# Altium footprint library PCB - LEADLESS - DFN - SKYWORKS SKY13351-378LF 1X1MM.PCBLIB: 1 footprints
Each footprint in its own frame and in the unit in brackets; x right, y up, seen from the top. Pads: shape width x height; smd on the part's side, far side on the other; paste and mask are expansions set on the pad; w line width, h text height; cw(c..) or ccw(c..) is an arc to the next point about the centre after c.
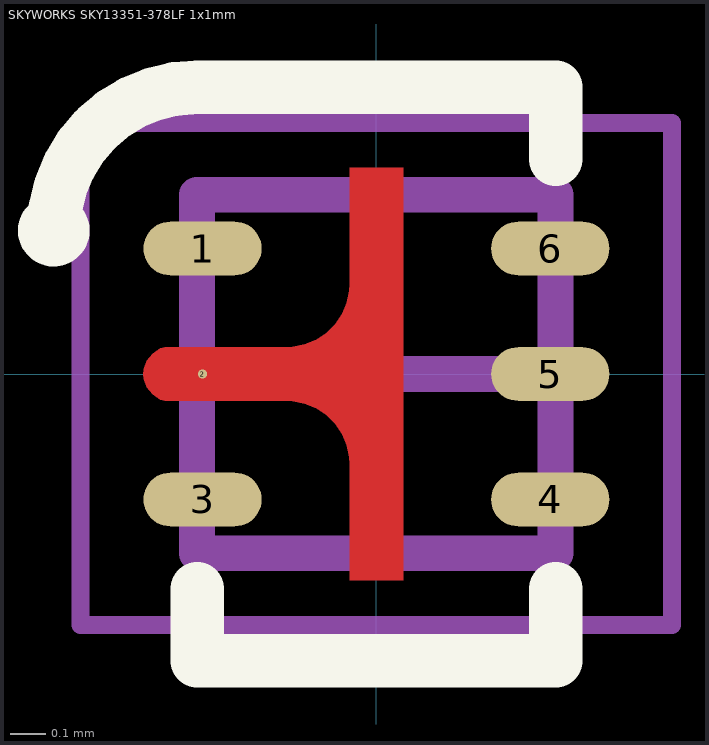
[diagram p0: the footprint, top view; thin cyan lines are the x and y axes]

## SKYWORKS SKY13351-378LF 1x1mm [mm] "QFN, 6-Leads, Body 1.00x1.00mm, Pitch 0.50mm, IPC High Density"
height 0.5
pads (6):
  oval 0.33x0.15 smd: 1(-0.485,0.35) 3(-0.485,-0.35) 4(0.485,-0.35) 5(0.485,0) 6(0.485,0.35)
  round 0.025 smd: 2(-0.485,0)
Top Layer:
  region: -0.075,0.575 -0.075,0.25 -0.076,0.233 -0.083,0.199 -0.096,0.168 -0.115,0.139 -0.139,0.115 -0.168,0.096 -0.199,0.083 -0.233,0.076 -0.25,0.075 -0.591,0.075 -0.603,0.071 -0.624,0.057 -0.64,0.037 -0.649,0.013 -0.65,0 -0.649,-0.013 -0.64,-0.037 -0.624,-0.057 -0.603,-0.071 -0.591,-0.075 -0.25,-0.075 -0.233,-0.076 -0.199,-0.083 -0.168,-0.096 -0.139,-0.115 -0.115,-0.139 -0.096,-0.168 -0.083,-0.199 -0.076,-0.233 -0.075,-0.25 -0.075,-0.575 0.075,-0.575 0.075,0.575
Top Overlay:
  circle w0.1: c-0.9,0.4 r0.05
  lines w0.15: -0.9,0.4 cw(c-0.5,0.4) -0.5,0.8 0.5,0.8 0.5,0.6 ; -0.5,-0.6 -0.5,-0.8 0.5,-0.8 0.5,-0.6
Mechanical 13:
  lines w0.1: -0.5,-0.5 0.5,-0.5 0.5,0.5 -0.5,0.5 -0.5,-0.5
Mechanical 15:
  lines w0.05: -0.825,-0.7 0.825,-0.7 0.825,0.7 -0.825,0.7 -0.825,-0.7
  lines w0.1: -0.5,0 0.5,0 ; 0,-0.5 0,0.5
3D body: height 0.5, standoff 0.01, extent -0.5,-0.5 0.5,0.5